# Altium footprint library inductors_transformers.pcblib: 24 footprints (part 2 of 2)
Each footprint in its own frame and in the unit in brackets; x right, y up, seen from the top. Pads: shape width x height; smd on the part's side, far side on the other; paste and mask are expansions set on the pad; w line width, h text height; cw(c..) or ccw(c..) is an arc to the next point about the centre after c.
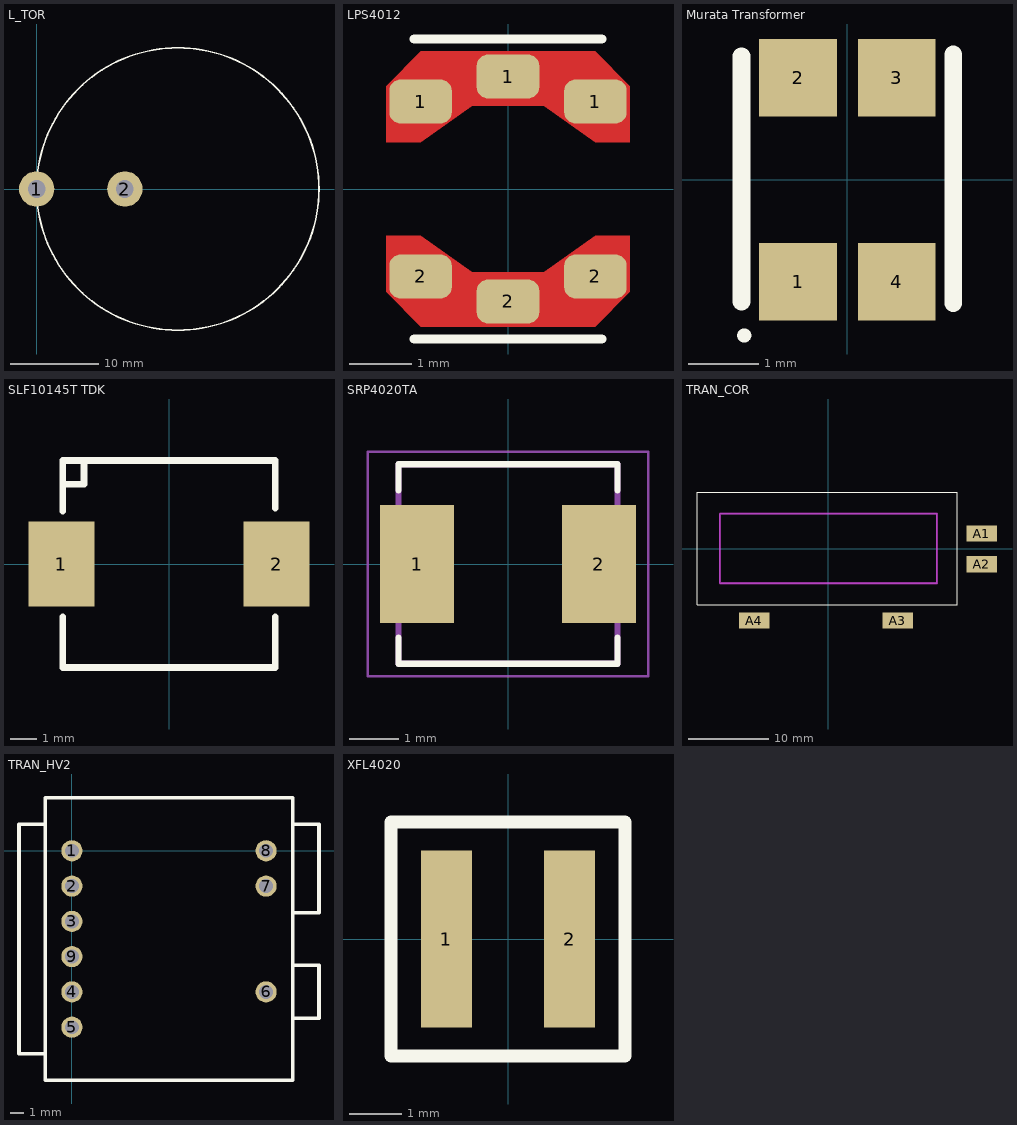
[diagram p1: the footprints below, top view; thin cyan lines are the x and y axes]

## L_TOR [mm]
height 15
pads (2):
  round 4 hole 2: 1(0,0) 2(10,0)
Top Overlay:
  circle w0.2: c16,0 r16
3D body "coill.stp": height 11, standoff 2, extent 2.11,-13.972 30,13.972

## LPS4012 [mm] "LPS4012"
height 2.1
pads (6):
  rrect50% 1x0.7 smd mask+0.102: 1(-1.4,1.4) 1(0,1.8) 1(1.4,1.4) 2(-1.4,-1.4) 2(0,-1.8) 2(1.4,-1.4)
Top Layer:
  region: -1.395,-2.2 -1.945,-1.64 -1.945,-0.75 -1.395,-0.75 -0.575,-1.33 0.575,-1.33 1.395,-0.75 1.945,-0.75 1.945,-1.64 1.395,-2.2
  region: 1.395,2.2 1.945,1.64 1.945,0.75 1.395,0.75 0.575,1.33 -0.575,1.33 -1.395,0.75 -1.945,0.75 -1.945,1.64 -1.395,2.2
Top Overlay:
  lines w0.15: -1.5,-2.4 1.5,-2.4 ; -1.5,2.4 1.5,2.4
Top Solder:
  region: 1.395,2.2 1.945,1.64 1.945,0.75 1.395,0.75 0.575,1.33 -0.575,1.33 -1.395,0.75 -1.945,0.75 -1.945,1.64 -1.395,2.2
  region: -1.395,-2.2 -1.945,-1.64 -1.945,-0.75 -1.395,-0.75 -0.575,-1.33 0.575,-1.33 1.395,-0.75 1.945,-0.75 1.945,-1.64 1.395,-2.2
3D body "User Library-LPS4012.step": height 0.81, standoff 0, extent -2,-2 2,2

## Murata Transformer [mm]
pads (4):
  rect 1.1x1.1 smd: 1(-0.7,-1.445) 2(-0.7,1.445) 3(0.7,1.445) 4(0.7,-1.445)
Top Overlay:
  circle w0.1: c-1.462,-2.207 r0.05
  lines w0.254: -1.5,-1.725 -1.5,1.75 ; 1.5,-1.75 1.5,1.775
3D body "MURATA_DLW32SH.step": height 2.5, standoff 0, extent -1.35,-1.75 1.35,1.75

## SLF10145T TDK [mm] "Inductor"
pads (2):
  rect 2.5x3.2 smd: 1(-4.05,0) 2(4.05,0)
Top Overlay:
  lines w0.254: -4,-2 -4,-3.9 4,-3.9 4,-2 ; -4,2 -4,3.9 4,3.9 4,2.1 ; -4,3 -3.2,3 -3.2,3.9
3D body "User Library-Coil.step": height 4.51, standoff -0.1, extent -3.6,-3.5 3.6,3.5

## SRP4020TA [mm]
pads (2):
  rect 1.5x2.4 smd: 1(-1.85,0) 2(1.85,0)
Top Overlay:
  lines w0.127: -2.225,-1.5 -2.225,-2.03 2.225,-2.03 2.225,-1.5 ; -2.225,1.5 -2.225,2.03 2.225,2.03 2.225,1.5
Plata3D:
  lines w0.127: -2.225,-2.03 2.225,-2.03 2.225,2.03 -2.225,2.03 -2.225,-2.03
Board3D:
  lines w0.05: -2.85,-2.28 2.85,-2.28 2.85,2.28 -2.85,2.28 -2.85,-2.28
3D body "WE_Inductor_4020.STEP": height 1.8, standoff 0, extent -2.32,-2.03 2.32,2.03

## TRAN_COR [mil]
pads (4):
  rect 150x80 smd: A1(750,75) A2(750,-75) A3(340,-350) A4(-360,-350)
Top Overlay:
  lines w5: -640,-272.83 630,-272.83 630,277.17 -640,277.17 -640,-272.83
Keep-Out Layer:
  lines w10: -528.62,-167.83 531.38,-167.83 531.38,172.17 -528.62,172.17 -528.62,-167.83
BotAssy:
  lines w7.87: -528.62,-167.83 -528.62,172.17 531.38,172.17 531.38,-167.83 -528.62,-167.83
3D body "Coil.stp": height 464.57, standoff -45.23, extent -662.84,-255.4 660,255.4

## TRAN_HV2 [mil]
height 433.07
pads (9):
  round 60 hole 39.37: 1(0,0) 2(0,-100) 3(0,-200) 4(0,-400) 5(0,-500) 6(550,-400) 7(550,-100) 8(550,0) 9(0,-300)
Top Overlay:
  lines w10: -75,-575 -150,-575 -150,75 -75,75 ; 625,-475 700,-475 700,-325 625,-325 ; 625,-175 700,-175 700,75 625,75 ; -75,-650 625,-650 625,150 -75,150 -75,-650
3D body "trans.stp": height 456.69, standoff -125.98, extent -135,-643.7 683.9,143.7

## XFL4020 [mm] "XFL4020 INDUCTOR"
height 2.1
pads (2):
  rect 0.98x3.4 smd: 1(-1.185,0) 2(1.185,0)
Top Overlay:
  lines w0.25: -2.25,-2.25 -2.25,2.25 2.25,2.25 2.25,-2.25 -2.25,-2.25
3D body "Coilcraft-XFL4020.step": height 2.1, standoff 0, extent -2.15,-2.15 2.15,2.15